# Altium schematic symbol library SCH - OPAMP - TI OPA835 RUN.SchLib: 1 symbol
Pins are listed as number, name and electrical type; pins without a type are passive.

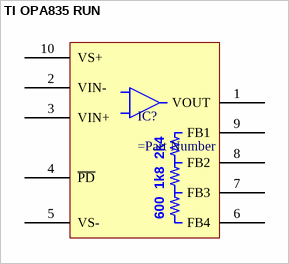
[diagram p0: symbol TI OPA835 RUN]

## TI OPA835 RUN
designator IC?
pins: 1 VOUT, 2 VIN-, 3 VIN+, 4 ~{PD}, 5 VS-, 6 FB4, 7 FB3, 8 FB2, 9 FB1, 10 VS+
text: 2k4; 1k8; 600